# EAGLE library part STM32G071GBU6 (library trafshlib)
STMICROELECTRONICS - STM32G071GBU6 - MCU, 32BIT, 64MHZ, UFQFPN-28 Source: Datasheet <https://www.st.com/resource/en/datasheet/stm32g071gb.pdf>
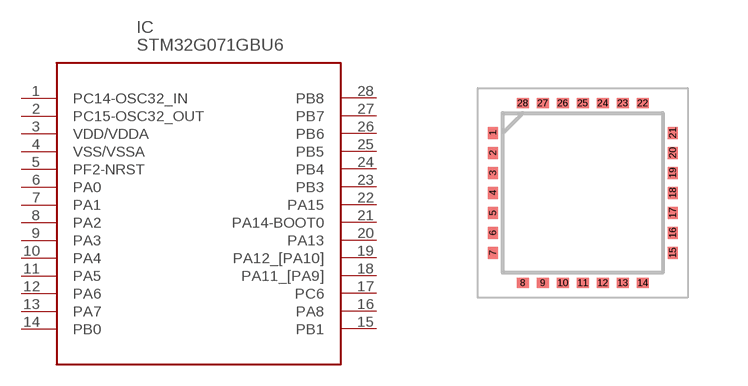
[diagram p19: symbol with the pads of QFN50P400X400X60-28N; footprint QFN50P400X400X60-28N]

Designator prefix IC

## STM32G071GBU6 (DESCRIPTION: STMICROELECTRONICS - STM32G071GBU6 - MCU, 32BIT, 64MHZ, UFQFPN-28; HEIGHT: 0.6mm; MANUFACTURER_NAME: STMicroelectronics; MANUFACTURER_PART_NUMBER: STM32G071GBU6; MOUSER_PART_NUMBER: 511-STM32G071GBU6; MOUSER_PRICE-STOCK: https://www.mouser.com/Search/Refine.aspx?Keyword=511-STM32G071GBU6; RS_PART_NUMBER: 511-STM32G071GBU6; RS_PRICE-STOCK: https://www.mouser.com/Search/Refine.aspx?Keyword=511-STM32G071GBU6)  [QFN50P400X400X60-28N]
1  PC14-OSC32_IN
2  PC15-OSC32_OUT
3  VDD/VDDA
4  VSS/VSSA
5  PF2-NRST
6  PA0
7  PA1
8  PA2
9  PA3
10  PA4
11  PA5
12  PA6
13  PA7
14  PB0
15  PB1
16  PA8
17  PC6
18  PA11_[PA9]
19  PA12_[PA10]
20  PA13
21  PA14-BOOT0
22  PA15
23  PB3
24  PB4
25  PB5
26  PB6
27  PB7
28  PB8

## Footprint QFN50P400X400X60-28N (pad centres in mm)
STM32G071GBU6
smd 0.25 x 0.3: 1 -2.25,1.5; 2 -2.25,1; 3 -2.25,0.5; 4 -2.25,0; 5 -2.25,-0.5; 6 -2.25,-1; 7 -2.25,-1.5; 15 2.25,-1.5; 16 2.25,-1; 17 2.25,-0.5; 18 2.25,0; 19 2.25,0.5; 20 2.25,1; 21 2.25,1.5
smd 0.3 x 0.25: 8 -1.5,-2.25; 9 -1,-2.25; 10 -0.5,-2.25; 11 0,-2.25; 12 0.5,-2.25; 13 1,-2.25; 14 1.5,-2.25; 22 1.5,2.25; 23 1,2.25; 24 0.5,2.25; 25 0,2.25; 26 -0.5,2.25; 27 -1,2.25; 28 -1.5,2.25